# Altium integrated library VJ0402G104KXQCW1BC.IntLib: 1 symbol
Pins are listed as number, name and electrical type; pins without a type are passive.

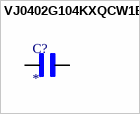
[diagram p0: symbol VJ0402G104KXQCW1BC]

## VJ0402G104KXQCW1BC
designator C?
0.1 ÂµF Â±10% 10V Ceramic Capacitor X5R 0402 (1005 Metric); MF: Vishay; MP: VJ0402G104KXQCW1BC; SnapEDA_Link: https://www.snapeda.com/parts/VJ0402G104KXQCW1BC/Vishay/view-part/?ref=snap; Package: 0402-2 VISHAY; Value: *; Check_prices: https://www.snapeda.com/parts/VJ0402G104KXQCW1BC/Vishay/view-part/?ref=eda
footprint CAPC1005X55N
pins: 1, 2